# Altium footprint library hole.PcbLib: 24 footprints (part 2 of 2)
Each footprint in its own frame and in the unit in brackets; x right, y up, seen from the top. Pads: shape width x height; smd on the part's side, far side on the other; paste and mask are expansions set on the pad; w line width, h text height; cw(c..) or ccw(c..) is an arc to the next point about the centre after c.
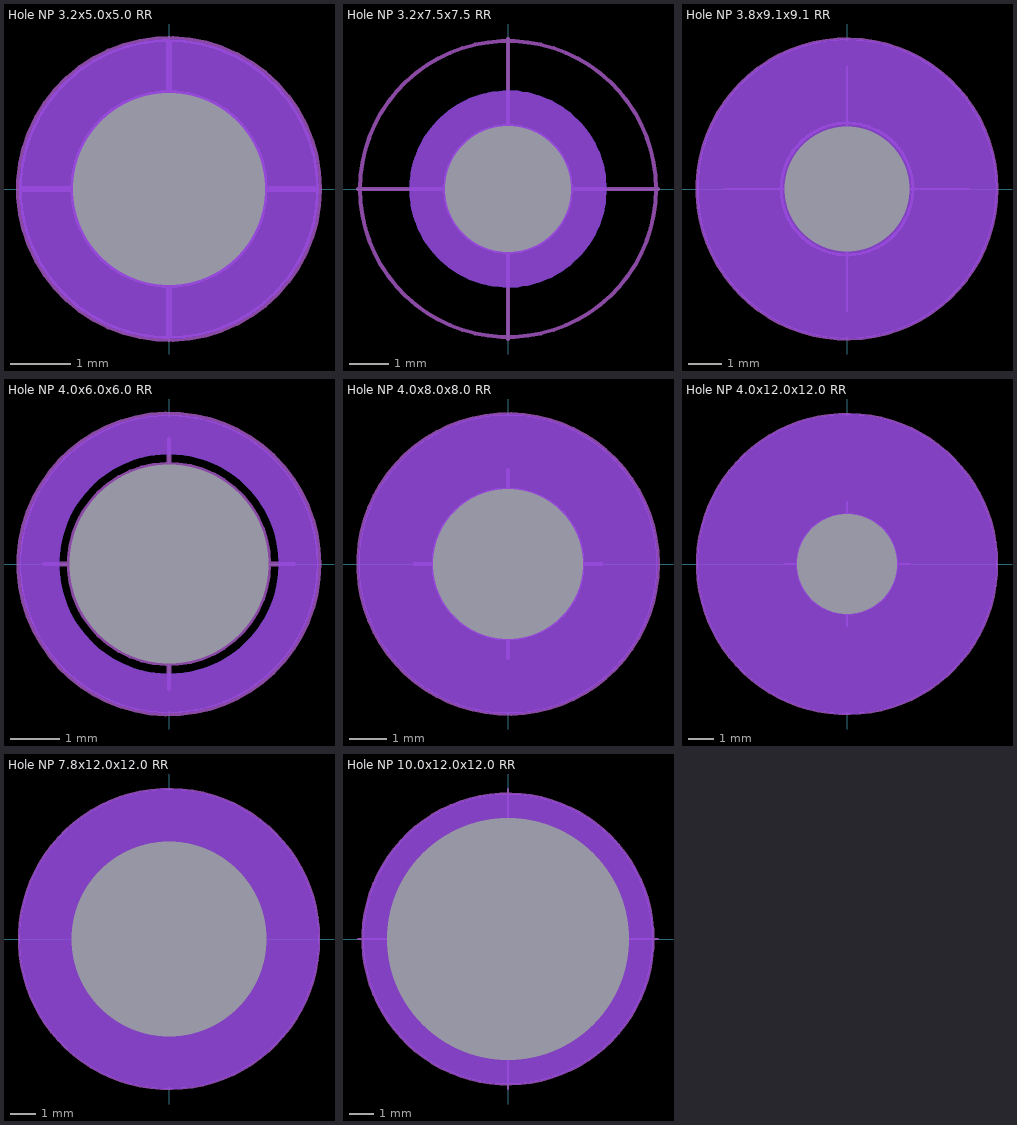
[diagram p1: the footprints below, top view; thin cyan lines are the x and y axes]

## Hole NP 3.2x5.0x5.0 RR [mm] "3.2mm Hole Non Plated, 5.0mm Round Clearance Top and Bottom"
pads (1):
  round 0 hole 3.2 unplated: 0(0,0)
Top Layer keep-out:
  circle w1: c0,0 r2
Bottom Layer keep-out:
  circle w1: c0,0 r2
Mechanical 13:
  circle w0.1: c0,0 r1.6
  lines w0.1: -2.5,0 2.5,0 ; 0,-2.5 0,2.5
Mechanical 14:
  circle w0.1: c0,0 r1.6
  lines w0.1: -2.2,0 2.2,0 ; 0,-2.2 0,2.2
Mechanical 15:
  circle w0.1: c0,0 r2.5
Mechanical 16:
  circle w0.1: c0,0 r2.5

## Hole NP 3.2x7.5x7.5 RR [mm] "3.2mm Hole Non Plated, 7.5mm Round Clearance Top and Bottom"
pads (1):
  round 0 hole 3.2 unplated: 0(0,0)
Top Layer keep-out:
  circle w1: c0,0 r2
Bottom Layer keep-out:
  circle w1: c0,0 r2
Mechanical 13:
  circle w0.1: c0,0 r1.6
  lines w0.1: -3.8,0 3.8,0 ; 0,-3.8 0,3.8
Mechanical 14:
  circle w0.1: c0,0 r1.6
  lines w0.1: -3.8,0 3.8,0 ; 0,-3.8 0,3.8
Mechanical 15:
  circle w0.1: c0,0 r3.75
Mechanical 16:
  circle w0.1: c0,0 r3.75

## Hole NP 3.8x9.1x9.1 RR [mm] "3.8mm Hole Non-Plated, 9.1 Round Clearance Top and Bottom"
pads (1):
  round 0 hole 3.8 unplated: 0(0,0)
Top Layer keep-out:
  circle w3: c0,0 r3.05
Bottom Layer keep-out:
  circle w3: c0,0 r3.05
Mechanical 13:
  circle w0.1: c0,0 r2
  lines w0.1: -3.7,0 3.7,0 ; 0,-3.7 0,3.7
Mechanical 14:
  circle w0.1: c0,0 r2
  lines w0.1: -2.2,0 2.2,0 ; 0,-2.2 0,2.2
Mechanical 15:
  circle w0.1: c0,0 r4.55
Mechanical 16:
  circle w0.1: c0,0 r4.55

## Hole NP 4.0x6.0x6.0 RR [mm] "4.0mm Hole Non-Plated, 6.0 Round Clearance Top and Bottom"
pads (1):
  round 0 hole 4 unplated: 0(0,0)
Top Layer keep-out:
  circle w0.8: c0,0 r2.6
Bottom Layer keep-out:
  circle w0.8: c0,0 r2.6
Mechanical 13:
  circle w0.1: c0,0 r2
  lines w0.1: -2.5,0 2.5,0 ; 0,-2.5 0,2.5
Mechanical 14:
  circle w0.1: c0,0 r2
  lines w0.1: -2.5,0 2.5,0 ; 0,-2.5 0,2.5
Mechanical 15:
  circle w0.1: c0,0 r3.01
Mechanical 16:
  circle w0.1: c0,0 r3.01

## Hole NP 4.0x8.0x8.0 RR [mm] "4.0mm Hole Non-Plated, 8.0 Round Clearance Top and Bottom"
pads (1):
  round 0 hole 4 unplated: 0(0,0)
Top Layer keep-out:
  circle w2: c0,0 r3
Bottom Layer keep-out:
  circle w2: c0,0 r3
Mechanical 13:
  circle w0.1: c0,0 r2
  lines w0.1: -2.5,0 2.5,0 ; 0,-2.5 0,2.5
Mechanical 14:
  circle w0.1: c0,0 r2
  lines w0.1: -2.5,0 2.5,0 ; 0,-2.5 0,2.5
Mechanical 15:
  circle w0.1: c0,0 r4.01
Mechanical 16:
  circle w0.1: c0,0 r4.01

## Hole NP 4.0x12.0x12.0 RR [mm] "4.0mm Hole Non-Plated, 12.0 Round Clearance Top and Bottom"
pads (1):
  round 0 hole 4 unplated: 0(0,0)
Top Layer keep-out:
  circle w4: c0,0 r4
Bottom Layer keep-out:
  circle w4: c0,0 r4
Mechanical 13:
  circle w0.1: c0,0 r2
  lines w0.1: -2.5,0 2.5,0 ; 0,-2.5 0,2.5
Mechanical 14:
  circle w0.1: c0,0 r2
  lines w0.1: -2.5,0 2.5,0 ; 0,-2.5 0,2.5
Mechanical 15:
  circle w0.1: c0,0 r6.01
Mechanical 16:
  circle w0.1: c0,0 r6.01

## Hole NP 7.8x12.0x12.0 RR [mm] "7.8mm Hole Non-Plated, 12.0 Round Clearance Top and Bottom"
pads (1):
  round 0 hole 7.8 unplated: 0(0,0)
Top Layer keep-out:
  circle w4: c0,0 r4
Bottom Layer keep-out:
  circle w4: c0,0 r4
Mechanical 13:
  circle w0.1: c0,0 r2
  lines w0.1: -3.7,0 3.7,0 ; 0,-3.7 0,3.7
Mechanical 14:
  circle w0.1: c0,0 r2
  lines w0.1: -2.2,0 2.2,0 ; 0,-2.2 0,2.2
Mechanical 15:
  circle w0.1: c0,0 r6.01
Mechanical 16:
  circle w0.1: c0,0 r6.01

## Hole NP 10.0x12.0x12.0 RR [mm] "10.0mm Hole Non-Plated, 12.0 Round Clearance Top and Bottom"
pads (1):
  round 0 hole 10 unplated: 0(0,0)
Top Layer keep-out:
  circle w4: c0,0 r4
Bottom Layer keep-out:
  circle w4: c0,0 r4
Mechanical 13:
  circle w0.1: c0,0 r6
  lines w0.1: -6.2,0 6.2,0 ; 0,-6.2 0,6.2
Mechanical 14:
  circle w0.1: c0,0 r6
  lines w0.1: -6.2,0 6.2,0 ; 0,-6.2 0,6.2
Mechanical 15:
  circle w0.1: c0,0 r6.01
Mechanical 16:
  circle w0.1: c0,0 r6.01